# EAGLE library part 7508112334 (library WE-OLEFD)
WE-OLEFD EFD-Style Offline Flyback Transformers Characteristics Universal input voltage Switching frequency: 68kHz to 170kHz Low Profile Isolation voltage: 4500VAC at 1 second Operating temp: -40°C to +125°C Designed for IEC61558-2 Reinforced 400VDC Applications LED lighting Offline switching power Power electronics Electronics ballasts White goods <https://www.we-online.com/catalog/media/o32905v209%20Family_MID-OLEFD.jpg> Details see: www.we-online.com/en/components/products/WE-OLEFD Created by Ella Wu 2023-04-11 2023 (C) Wurth Elektronik
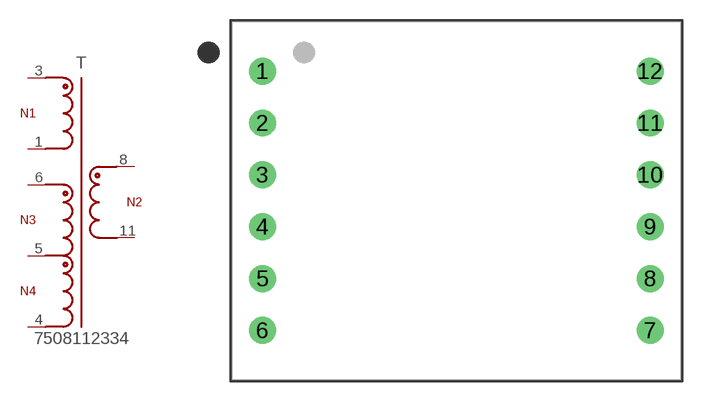
[diagram p4: symbol with the pads of WE-OLEFD_EFD25_THT; footprint WE-OLEFD_EFD25_THT]

Designator prefix T

## 7508112334 (DATASHEET-URL: https://www.we-online.com/redexpert/spec/7508112334?ae; F-SWTICH: 68 - 110kHz; HEIGHT: 14.81mm; IOUT1: 1.6A; ISAT1: 2.2A; L1: 414µH; LENGTH: 26.3mm; MOUNT: THT; N: 16:2.33:2:1; PART-NUMBER: 7508112334; VALUE: 7508112334; VAUX: 20V; VAUX1: 6V; VAUX2: 14V; VIN: 85 - 265 V (AC); VOUT1: 16V; VT: 4501 V (AC); WIDTH: 33mm)  [WE-OLEFD_EFD25_THT]
1  1  pas
3  3  pas
4  4  pas
5  5  pas
6  6  pas
8  8  pas
11  11  pas

## Footprint WE-OLEFD_EFD25_THT (pad centres in mm)
WE-OLEFD EFD-Style Offline Flyback Transformers Size: EFD25,THT,12pins LXWXH=26.3X33X14.81mm
drill 1.32: 1 -14.25,9.525; 2 -14.25,5.715; 3 -14.25,1.905; 4 -14.25,-1.905; 5 -14.25,-5.715; 6 -14.25,-9.525; 7 14.25,-9.525; 8 14.25,-5.715; 9 14.25,-1.905; 10 14.25,1.905; 11 14.25,5.715; 12 14.25,9.525